# Altium schematic symbol library Schlib1.SchLib: 7 symbols
Pins are listed as number, name and electrical type; pins without a type are passive.

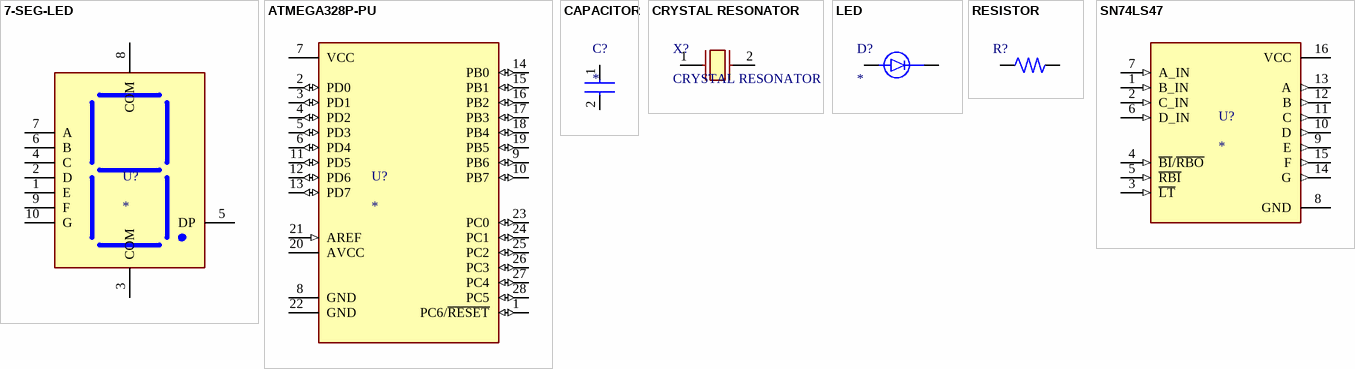
[diagram p0: symbols 7-SEG-LED to SN74LS47]

## 7-SEG-LED
designator U?
MF: {'manufacturer': u'Inolux'}; MP: INND-TS56YGAB; Package: None; Price: None; Value: *; Availability: Unavailable
footprint LED_INND-TS56YGAB
pins: 1 E, 2 D, 3 COM, 4 C, 5 DP, 6 B, 7 A, 8 COM, 9 F, 10 G

## ATMEGA328P-PU
designator U?
ATmega Series 20 MHz 32 KB Flash 2 KB SRAM 8-Bit Microcontroller - DIP-28; MP: ATMEGA328P-PU; Package: None; Availability: Unavailable; Price: None; Value: *
footprint DIP794W46P254L2967H457Q28B
pins: 1 PC6/~{RESET} (io), 2 PD0 (io), 3 PD1 (io), 4 PD2 (io), 5 PD3 (io), 6 PD4 (io), 7 VCC (power), 8 GND (power), 9 PB6 (io), 10 PB7 (io), 11 PD5 (io), 12 PD6 (io), 13 PD7 (io), 14 PB0 (io), 15 PB1 (io), 16 PB2 (io), 17 PB3 (io), 18 PB4 (io), 19 PB5 (io), 20 AVCC (power), 21 AREF (in), 22 GND (power), 23 PC0 (io), 24 PC1 (io), 25 PC2 (io), 26 PC3 (io), 27 PC4 (io), 28 PC5 (io)

## CAPACITOR
designator C?
Design Item ID: *; Package: *; Size: *; Value: *; MF: *; MP: *; Supplier: *
footprint CAP_8x11mm
pins: 1, 2

## CRYSTAL RESONATOR
designator X?
Design Item ID: *; Package: *; Value: *; MF: *; MP: *
footprint XTAL_HC49P488W43L1150T466H350
pins: 1, 2

## LED
designator D?
footprint LED-TH-2.54mm-RED
pins: 1 A, 2 K

## RESISTOR
designator R?  (value not drawn)
Resistor Symbol; Design Item ID: *; Package: *; Size: *; Value: *; MF: *; MP: *; Supplier: *
footprint RES0805_SMD
pins: 1, 2

## SN74LS47
designator U?
BCD-to-Seven-Segment Decoders/Drivers; MF: Texas Instruments; MP: SN74LS47N; SnapEDA_Link: https://www.snapeda.com/parts/SN74LS47N/Texas+Instruments/view-part/?ref=snap; Package: PDIP-16 Texas Instruments; Value: *; Check_prices: https://www.snapeda.com/parts/SN74LS47N/Texas+Instruments/view-part/?ref=eda
footprint DIP794W45P254L1930H508Q16
pins: 1 B_IN (in), 2 C_IN (in), 3 ~{LT} (in), 4 ~{BI}/~{RBO} (in), 5 ~{RBI} (in), 6 D_IN (in), 7 A_IN (in), 8 GND (power), 9 E (out), 10 D (out), 11 C (out), 12 B (out), 13 A (out), 14 G (out), 15 F (out), 16 VCC (power)